# EAGLE library part LPC1785FBD208,551 (library usevolt)
32-bit ARM Cortex-M3 microcontroller,LQFP-208 Datasheets LPC178X,177X Product Photos 208-LQFP SOT459-1 PCN Design/Specification LPC177x/178x Datasheet Update 05/Jun/2014 Standard Package ? 36 Category Integrated Circuits (ICs) Family Embedded - Microcontrollers Series LPC17xx Packaging ? Tray ? Core Processor ARM® Cortex®-M3 Core Size 32-Bit Speed 120MHz Connectivity CAN, EBI/EMI, I²C, Microwire, Memory Card, SPI, SSI, SSP, UART/USART, USB OTG Peripherals Brown-out Detect/Reset, DMA, I²S, LCD, Motor Control PWM, POR, PWM, WDT Number of I/O 165 Program Memory Size 256KB (256K x 8) Program Memory Type FLASH EEPROM Size 4K x 8 RAM Size 80K x 8 Voltage - Supply (Vcc/Vdd) 2.4 V ~ 3.6 V Data Converters A/D 8x12b, D/A 1x10b Oscillator Type Internal Operating Temperature -40°C ~ 85°C Package / Case 208-LQFP Supplier Device Package 208-LQFP (28x28) For Use With 568-10930-ND - BOARD EVAL LPC-LINK 2 EA-XPR-200-ND - LPC-LINK 2 Other Names 568-7573 935291613551 LPC1785FBD208,551-ND LPC1785FBD208551
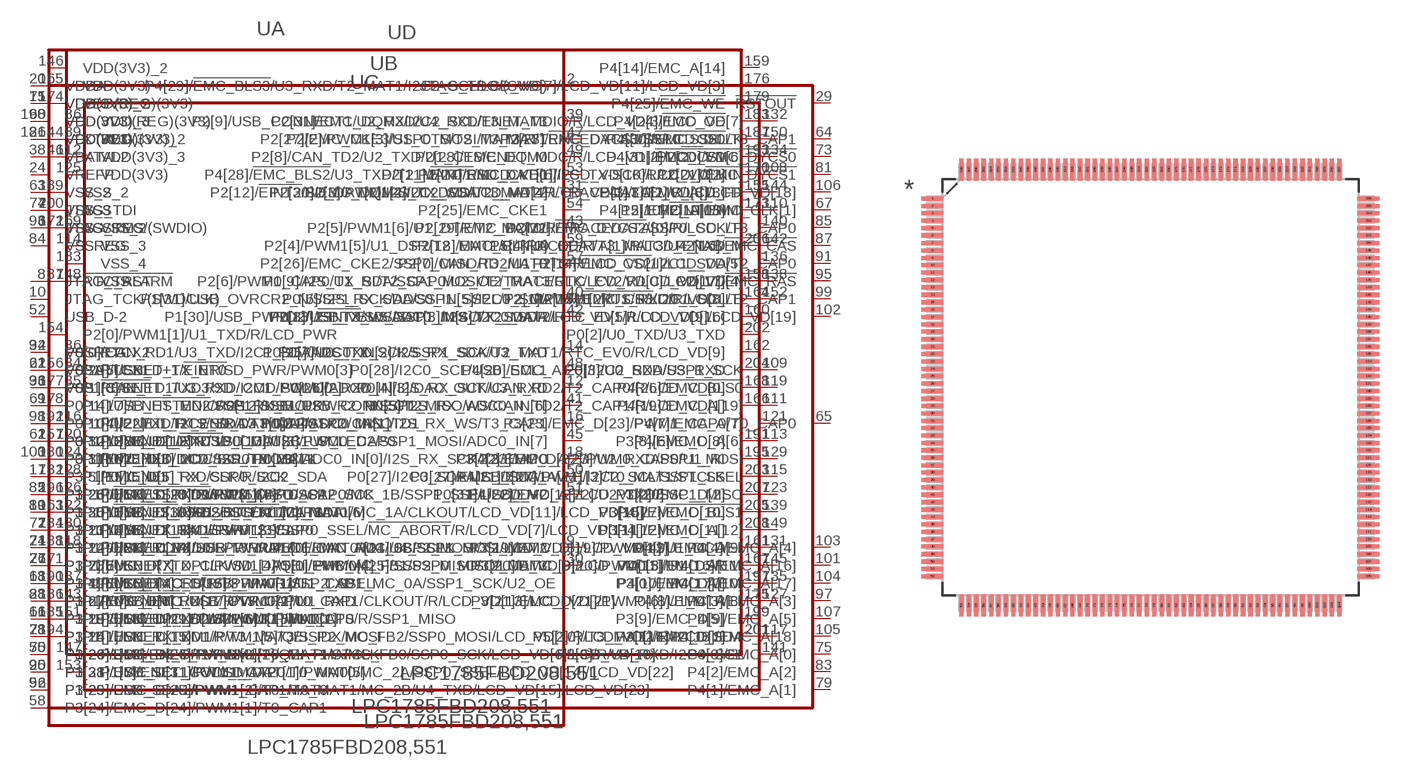
[diagram p23: symbol with the pads of QFP50P3000X3000X160-208N; footprint QFP50P3000X3000X160-208N]

Designator prefix U; gates A=LPC1785FBD208,551_A B=LPC1785FBD208,551_B C=LPC1785FBD208,551_C D=LPC1785FBD208,551_D

## LPC1785FBD208,551QFP50 (MPN: LPC1785FBD208,551; OC_FARNELL: 2094301; OC_NEWARK: 41T4095; PACKAGE: LQFP-208; SUPPLIER: NXP)  [QFP50P3000X3000X160-208N]
1  A:P3[12]/EMC_D[12]
2  A:JTAG_TDO/(SWO)  out
3  A:P3[3]/EMC_D[3]
4  A:JTAG_TDI  in
5  A:P3[28]/EMC_D[28]/PWM1[5]/T1_CAP1
6  A:JTAG_TMS/(SWDIO)  in
7  A:P3[13]/EMC_D[13]
8  B:JTAG_!TRST!  in
9  A:P5[0]/EMC_A[24]/SSP2_MOSI/T2_MAT2
10  B:JTAG_TCK/(SWDCLK)  in
11  A:P3[29]/EMC_D[29]/PWM1[6]/T1_MAT0
12  A:P0[26]/ADC0_IN[3]/DAC_OUT/U3_RXD
13  A:P3[4]/EMC_D[4]
14  A:P0[25]/ADC0_IN[2]/I2S_RX_SDA/U3_TXD
15  A:VDD(3V3)_2  pwr
16  A:P0[24]/ADC0_IN[1]/I2S_RX_WS/T3_CAP1
17  A:P3[5]/EMC_D[5]
18  A:P0[23]/ADC0_IN[0]/I2S_RX_SCK/T3_CAP0
19  A:P3[30]/EMC_D[30]/U1_RTS/T1_MAT1
20  A:VDDA  pwr
21  A:P3[14]/EMC_D[14]
22  A:VSSA  pas
23  A:P3[6]/EMC_D[6]
24  A:VREFP
25  A:P3[31]/EMC_D[31]/R/T1_MAT2
26  A:VDD(REG)(3V3)  pwr
27  A:P3[7]/EMC_D[7]
28  A:P3[15]/EMC_D[15]
29  B:!RSTOUT  out
30  A:P5[1]/EMC_A[25]/SSP2_MISO/T2_MAT3
31  A:P2[30]/EMC_DQM2/I2C2_SDA/T3_MAT2
32  A:VSSREG  pas
33  A:VSS  pas
34  C:RTCX1  in
35  C:!RESET  in
36  C:RTCX2  out
37  D:!RTC_ALARM  out
38  B:VBAT  pwr
39  A:P2[31]/EMC_DQM3/I2C2_SCL/T3_MAT3
40  A:P1[31]/USB_OVRCR2_N/SSP1_SCK/ADC0_IN[5]/I2C0_SCL
41  A:P0[12]/USB_PPWR2_N/SSP1_MISO/ADC0_IN[6]
42  A:P1[30]/USB_PWRD2/USB_VBUS/ADC0_IN[4]/I2C0_SDA
43  A:P2[29]/EMC_DQM1
44  D:XTAL1  in
45  A:P0[13]/USB_UP_LED2/SSP1_MOSI/ADC0_IN[7]
46  D:XTAL2  out
47  A:P2[27]/EMC_CKE3/SSP0_MOSI/T3_MAT1
48  A:P0[28]/I2C0_SCL/USB_SCL1
49  A:P2[28]/EMC_DQM0
50  A:P0[27]/I2C0_SDA/USB_SDA1
51  A:P0[31]/USB_D+2
52  A:USB_D-2
53  A:P2[24]/EMC_CKE0
54  A:P2[25]/EMC_CKE1
55  A:P3[26]/EMC_D[26]/PWM1[3]/T0_MAT1/STCLK
56  A:P3[25]/EMC_D[25]/PWM1[2]/T0_MAT0
57  A:P2[26]/EMC_CKE2/SSP0_MISO/T3_MAT0
58  A:P3[24]/EMC_D[24]/PWM1[1]/T0_CAP1
59  A:P2[18]/EMC_CLK[0]
60  B:VDD(3V3)_3  pwr
61  B:P0[29]/USB_D+1/!EINT0
62  B:P0[30]/USB_D-1/!EINT1
63  B:VSS_2  pas
64  B:P2[23]/!EMC_DYCS3!/SSP0_SSEL/T3_CAP1
65  B:P3[23]/EMC_D[23]/PWM1_CAP0/T0_CAP0
66  B:P1[18]/USB_UP_LED1/PWM1[1]/T1_CAP0/R/SSP1_MISO
67  B:P2[19]/EMC_CLK[1]
68  B:P1[19]/!USB_TX_E1!/!USB_PPWR1!/T1_CAP1_MC_0A/SSP1_SCK/U2_OE
69  B:P0[14]/!USB_HSTEN2!/SSP1_SSEL/USB_CONNECT2
70  B:P1[20]/USB_TX_DP1/PWM1[2]/QEI_PHA/MC_FB0/SSP0_SCK/LCD_VD[6]/LCD_VD[10]
71  B:VDD(3V3)_2  pwr
72  B:P1[21]/USB_TX_DM1/PWM1[3]/SSP0_SSEL/!MC_ABORT!/R/LCD_VD[7]/LCD_VD[11]
73  B:P2[20]/!EMC_DYCS0
74  B:P1[22]/USB_RCV1/USB_PWRD1/T1_MAT0/MC_0B/SSP1_MOSI/LCD_VD[8]/LCD_VD[12]
75  B:P4[0]/EMC_A[0]
76  B:P1[23]/USB_RX_DP1/PWM1[4]/QEI_PHB/MC_FB1/SSP0_MISO/LCD_VD[9]/LCD_VD[13]
77  B:VSS_3  pas
78  B:P1[24]/USB_RX_DM1/PWM1[5]/QEI_IDX/MC_FB2/SSP0_MOSI/LCD_VD[10]/LCD_VD[14]
79  B:P4[1]/EMC_A[1]
80  B:P1[25]/!USB_LS1!/!USB_HSTEN1!/T1_MAT1/MC_1A/CLKOUT/LCD_VD[11]/LCD_VD[15]
81  B:P2[21]/!EMC_DYCS1
82  B:P1[26]/!USB_SSPND1!/PWM1[6]/T0_CAP0/MC_1B/SSP1_SSEL/LCD_VD[12]/LCD_VD[20]
83  B:P4[2]/EMC_A[2]
84  B:VSSREG  pas
85  B:P2[22]/!EMC_DYCS2!/SSP0_SCK/T3_CAP0
86  C:VDD(REG)(3V3)  pwr
87  B:P2[16]/!EMC_CAS!
88  B:P1[27]/!USB_INT1!/!USB_OVRCR1!/T0_CAP1/CLKOUT/R/LCD_VD[13]/LCD_VD[21]
89  C:VDD(3V3)_2  pwr
90  B:P1[28]/USB_SCL1/PWM1_CAP0/T0_MAT0/MC_2A/SSP0_SSEL/LCD_VD[14]/LCD_VD[22]
91  B:P2[14]/!EMC_CS2!/I2C1_SDA/T2_CAP0
92  B:P1[29]/USB_SDA1/PWM1_CAP1/T0_MAT1/MC_2B/U4_TXD/LCD_VD[15]/LCD_VD[23]
93  B:VSS  pas
94  B:P0[0]/CAN_RD1/U3_TXD/I2C1_SDA/U0_TXD
95  B:P2[17]/!EMC_RAS
96  B:P0[1]/CAN_TD1/U3_RXD/I2C1_SCL/U0_RXD
97  B:P4[3]/EMC_A[3]
98  B:P0[10]/U2_TXD/I2C2_SDA/T3_MAT0
99  B:P2[15]/!EMC_CS3!/I2C1_SCL/T2_CAP1
100  B:P0[11]/U2_RXD/I2C2_SCL/T3_MAT1
101  B:P4[16]/EMC_A[16]
102  B:P2[13]/!EINT3!/SD_DAT[3]/I2S_TX_SDA/R/LCD_VD[5]/LCD_VD[9]/LCD_VD[19]
103  B:P4[4]/EMC_A[4]
104  B:P4[17]/EMC_A[17]
105  B:P4[18]/EMC_A[18]
106  B:P2[12]/!EINT2!/SD_DAT[2]/I2S_TX_WS/LCD_VD[4]/LCD_VD[3]/LCD_VD[8]/LCD_VD[18]
107  B:P4[5]/EMC_A[5]
108  C:P2[11]/!EINT1!/SD_DAT[1]/I2S_TX-SCK/R/LCD_CLKIN
109  C:P4[20]/EMC_A[20]/I2C2_SDA/SSP1_SCK
110  C:P2[10]/!EINT0!/NMI
111  C:P4[19]/EMC_A[19]
112  C:VDD(3V3)_3  pwr
113  C:P4[6]/EMC_A[6]
114  C:VSS_3  pas
115  C:P4[21]/EMC_A[21]/I2C2_SCL/SSP1_SSEL
116  C:P0[22]/U1_RTS/SD_DAT[0]/U4_TXD/CAN_TD1
117  C:P5[2]/R/T3_MAT2/R/I2C0_SDA
118  C:P0[21]/U1_RI/SD_PWR/U4_OE/CAN_RD1/U4_SCLK
119  C:P4[26]/!EMC_BLS0
120  C:P0[20]/U1_DTR/SD_CMD/I2C1_SCL
121  C:P4[7]/EMC_A[7]
122  C:P0[19]/U1_DSR/SD_CLK/I1C1_SDA
123  C:P4[22]/EMC_A[22]/U2_TXD/SSP1_MISO
124  C:P0[18]/U1_DCD/SSP0_MOSI
125  C:VDD(3V3)  pwr
126  C:P0[17]/U1_CTS/SSP0_MISO
127  C:P4[8]/EMC_A[8]
128  C:P0[15]/U1_TXD/SSP0_SCK
129  C:P4[23]/EMC_A[23]/U2_RXD/SSP1_MOSI
130  C:P0[16]/U1_RXD/SSP0_SSEL
131  C:P4[9]/EMC_A[9]
132  C:P2[9]/USB_CONNECT1/U2_RXD/U4_RXD/ENET_MDIO/R/LCD_VD[3]/LCD_VD[7]
133  C:VSS_4  pas
134  C:P2[8]/CAN_TD2/U2_TXD/U1_CTS/ENET_MDC/R/LCD_VD[2]/LCD_VD[6]
135  C:P4[10]/EMC_A[10]
136  C:P2[7]/CAN_RD2/U1_RTS/R/LCD_VD[1]/LCD_VD[5]
137  C:P3[16]/EMC_D[16]/PWM0[1]/U1_TXD
138  C:P2[6]/PWM1_CAP0/U1_RI/T2_CAP0/U2_OE/TRACECLK/LCD_VD[0]/LCD_VD[4]
139  C:P4[27]/!EMC_BLS1
140  C:P2[5]/PWM1[6]/U1_DTR/T2_MAT0/R/TRACEDATA[0]/R/LCD_LP
141  C:P5[3]/R/U4_RXD/I2C0_SCL
142  C:P2[4]/PWM1[5]/U1_DSR/T2_MAT1/R/TRACEDATA[1]/R/LCD_ENAB_M
143  C:P3[17]/EMC_D[17]/PWM0[2]/U1_RXD
144  C:P2[3]/PWM1[4]/U1_DCD/T2_MAT2/R/TRACEDATA[2]/R/LCD_FP
145  C:P4[11]/EMC_A[11]
146  D:VDD(3V3)_2  pwr
147  C:P1[13]/ENET_RX_DV
148  C:VSS  pas
149  C:P4[12]/EMC_A[12]
150  C:P2[2]/PWM1[3]/U1_CTS/T2_MAT3/R/TRACEDATA[3]/R/LCD_DCLK
151  C:P3[18]/EMC_D[18]/PWM0[3]/U1_CTS
152  C:P2[1]/PWM1[2]/U1_RXD/R/LCD_LE
153  C:P1[7]/ENET_COL/SD_DAT[1]/PWM0[5]
154  D:P2[0]/PWM1[1]/U1_TXD/R/LCD_PWR
155  D:P4[13]/EMC_A[13]
156  D:P1[5]/ENET_TX_ER/SD_PWR/PWM0[3]
157  D:P1[12]/ENET_RXD3/SD_DAT[3]/PWM0_CAP0
158  D:P0[9]/I2S_TX_SDA/SSP1_MOSI/T2_MAT3/RTC_EV2/R/LCD_VD[17]
159  D:P4[14]/EMC_A[14]
160  D:P0[8]/I2S_TX_WS/SSP1_MISO/T2_MAT2/RTC_EV1/R/LCD_VD[16]
161  D:P3[19]/EMC_D[19]/PWM0[4]/U1_DCD
162  D:P0[7]/I2S_TX_SCK/SSP1_SCK/T2_MAT1/RTC_EV0/R/LCD_VD[9]
163  D:P1[11]/ENET_RXD2/SD_DAT[2]/PWM0[6]
164  D:P0[6]/I2S_RX_SDA/SSP1_SSEL/T2_MAT0/U1_RTS/R/LCD_VD[8]
165  D:VDD(3V3)  pwr
166  D:P0[5]/I2S_RX_WS/CAN_TD2/T2_CAP1/R/LCD_VD[1]
167  D:P3[20]/EMC_D[20]/PWM0[5]/U1_DSR
168  D:P0[4]/I2S_RX_SCK/CAN_RD2/T2_CAP0/R/LCD_VD[0]
169  C:VSS_2  pas
170  D:P4[28]/!EMC_BLS2!/U3_TXD/T2_MAT0/R/LCD_VD[6]/LCD_VD[10]/LCD_VD[2]
171  D:P1[6]/ENET_TX_CLK/SD_DAT[0]/PWM0[4]
172  D:VSSREG  pas
173  D:P4[15]/EMC_A[15]
174  D:VDD(REG)(3V3)  pwr
175  D:P3[21]/EMC_D[21]/PWM0[6]/U1_DTR
176  D:P4[29]/!EMC_BLS3!/U3_RXD/T2_MAT1/I2C2_SCL/LCD_VD[7]/LCD_VD[11]/LCD_VD[3]
177  D:P1[3]/ENET_TXD3/SD_CMD/PWM0[2]
178  D:P1[17]/ENET_MDIO/I2S_RX_MCLK
179  D:P4[25]/!EMC_WE
180  D:P1[16]/ENET_MDC/I2S_TX_MCLK
181  B:VDD(3V3)  pwr
182  D:P1[15]/ENET_RX_CLK/R/I2C2_SDA
183  D:P4[24]/!EMC_OE
184  D:P1[14]/ENET_RX_ER/R/T2_CAP0
185  D:P1[2]/ENET_TXD2/SD_CLK/PWM0[1]
186  D:P1[10]/ENET_RXD1/R/T3_CAP0
187  D:P4[30]/!EMC_CS0
188  D:P1[9]/ENET_RXD0/R/T3_MAT0
189  D:VSS_2  pas
190  D:P1[8]/ENET_CRS/R/T3_MAT1/SSP2_SSEL
191  D:P3[8]/EMC_D[8]
192  D:P1[4]/ENET_TX_EN/R/T3_MAT2/SSP2_MISO
193  D:P4[31]/!EMC_CS1
194  D:P1[1]/ENET_TXD1/R/T3_MAT3/SSP2_MOSI
195  D:P3[22]/EMC_D[22]/PWM0_CAP0/U1_RI
196  D:P1[0]/ENET_TXD0/R/T3_CAP1/SSP2_SCK
197  D:P3[0]/EMC_D[0]
198  A:VDD(3V3)  pwr
199  D:P3[9]/EMC_D[9]
200  D:VSS  pas
201  D:P3[1]/EMC_D[1]
202  D:P0[2]/U0_TXD/U3_TXD
203  D:P3[27]/EMC_D[27]/PWM1[3]/T0_MAT1/STCLK
204  D:P0[3]/U0_RXD/U3_RXD
205  D:P3[10]/EMC_D[10]
206  D:P5[4]/U0_OE/R/T3_MAT3/U4_TXD
207  D:P3[2]/EMC_D[2]
208  D:P3[11]/EMC_D[11]

## Footprint QFP50P3000X3000X160-208N (pad centres in mm)
smd 1.473 x 0.279: 1 -14.707,12.751; 2 -14.707,12.243; 3 -14.707,11.76; 4 -14.707,11.252; 5 -14.707,10.744; 6 -14.707,10.262; 7 -14.707,9.754; 8 -14.707,9.246; 9 -14.707,8.738; 10 -14.707,8.255; 11 -14.707,7.747; 12 -14.707,7.239; 13 -14.707,6.756; 14 -14.707,6.248; 15 -14.707,5.74; 16 -14.707,5.258; 17 -14.707,4.75; 18 -14.707,4.242; 19 -14.707,3.759; 20 -14.707,3.251; 21 -14.707,2.743; 22 -14.707,2.261; 23 -14.707,1.753; 24 -14.707,1.245; 25 -14.707,0.762; 26 -14.707,0.254; 27 -14.707,-0.254; 28 -14.707,-0.762; 29 -14.707,-1.245; 30 -14.707,-1.753; 31 -14.707,-2.261; 32 -14.707,-2.743; 33 -14.707,-3.251; 34 -14.707,-3.759; 35 -14.707,-4.242; 36 -14.707,-4.75; 37 -14.707,-5.258; 38 -14.707,-5.74; 39 -14.707,-6.248; 40 -14.707,-6.756; 41 -14.707,-7.239; 42 -14.707,-7.747; 43 -14.707,-8.255; 44 -14.707,-8.738; 45 -14.707,-9.246; 46 -14.707,-9.754; 47 -14.707,-10.262; 48 -14.707,-10.744; 49 -14.707,-11.252; 50 -14.707,-11.76; 51 -14.707,-12.243; 52 -14.707,-12.751; 105 14.707,-12.751; 106 14.707,-12.243; 107 14.707,-11.76; 108 14.707,-11.252; 109 14.707,-10.744; 110 14.707,-10.262; 111 14.707,-9.754; 112 14.707,-9.246; 113 14.707,-8.738; 114 14.707,-8.255; 115 14.707,-7.747; 116 14.707,-7.239; 117 14.707,-6.756; 118 14.707,-6.248; 119 14.707,-5.74; 120 14.707,-5.258; 121 14.707,-4.75; 122 14.707,-4.242; 123 14.707,-3.759; 124 14.707,-3.251; 125 14.707,-2.743; 126 14.707,-2.261; 127 14.707,-1.753; 128 14.707,-1.245; 129 14.707,-0.762; 130 14.707,-0.254; 131 14.707,0.254; 132 14.707,0.762; 133 14.707,1.245; 134 14.707,1.753; 135 14.707,2.261; 136 14.707,2.743; 137 14.707,3.251; 138 14.707,3.759; 139 14.707,4.242; 140 14.707,4.75; 141 14.707,5.258; 142 14.707,5.74; 143 14.707,6.248; 144 14.707,6.756; 145 14.707,7.239; 146 14.707,7.747; 147 14.707,8.255; 148 14.707,8.738; 149 14.707,9.246; 150 14.707,9.754; 151 14.707,10.262; 152 14.707,10.744; 153 14.707,11.252; 154 14.707,11.76; 155 14.707,12.243; 156 14.707,12.751
smd 0.279 x 1.473: 53 -12.751,-14.707; 54 -12.243,-14.707; 55 -11.76,-14.707; 56 -11.252,-14.707; 57 -10.744,-14.707; 58 -10.262,-14.707; 59 -9.754,-14.707; 60 -9.246,-14.707; 61 -8.738,-14.707; 62 -8.255,-14.707; 63 -7.747,-14.707; 64 -7.239,-14.707; 65 -6.756,-14.707; 66 -6.248,-14.707; 67 -5.74,-14.707; 68 -5.258,-14.707; 69 -4.75,-14.707; 70 -4.242,-14.707; 71 -3.759,-14.707; 72 -3.251,-14.707; 73 -2.743,-14.707; 74 -2.261,-14.707; 75 -1.753,-14.707; 76 -1.245,-14.707; 77 -0.762,-14.707; 78 -0.254,-14.707; 79 0.254,-14.707; 80 0.762,-14.707; 81 1.245,-14.707; 82 1.753,-14.707; 83 2.261,-14.707; 84 2.743,-14.707; 85 3.251,-14.707; 86 3.759,-14.707; 87 4.242,-14.707; 88 4.75,-14.707; 89 5.258,-14.707; 90 5.74,-14.707; 91 6.248,-14.707; 92 6.756,-14.707; 93 7.239,-14.707; 94 7.747,-14.707; 95 8.255,-14.707; 96 8.738,-14.707; 97 9.246,-14.707; 98 9.754,-14.707; 99 10.262,-14.707; 100 10.744,-14.707; 101 11.252,-14.707; 102 11.76,-14.707; 103 12.243,-14.707; 104 12.751,-14.707; 157 12.751,14.707; 158 12.243,14.707; 159 11.76,14.707; 160 11.252,14.707; 161 10.744,14.707; 162 10.262,14.707; 163 9.754,14.707; 164 9.246,14.707; 165 8.738,14.707; 166 8.255,14.707; 167 7.747,14.707; 168 7.239,14.707; 169 6.756,14.707; 170 6.248,14.707; 171 5.74,14.707; 172 5.258,14.707; 173 4.75,14.707; 174 4.242,14.707; 175 3.759,14.707; 176 3.251,14.707; 177 2.743,14.707; 178 2.261,14.707; 179 1.753,14.707; 180 1.245,14.707; 181 0.762,14.707; 182 0.254,14.707; 183 -0.254,14.707; 184 -0.762,14.707; 185 -1.245,14.707; 186 -1.753,14.707; 187 -2.261,14.707; 188 -2.743,14.707; 189 -3.251,14.707; 190 -3.759,14.707; 191 -4.242,14.707; 192 -4.75,14.707; 193 -5.258,14.707; 194 -5.74,14.707; 195 -6.248,14.707; 196 -6.756,14.707; 197 -7.239,14.707; 198 -7.747,14.707; 199 -8.255,14.707; 200 -8.738,14.707; 201 -9.246,14.707; 202 -9.754,14.707; 203 -10.262,14.707; 204 -10.744,14.707; 205 -11.252,14.707; 206 -11.76,14.707; 207 -12.243,14.707; 208 -12.751,14.707